# Altium schematic symbol library TE Connectivity.SchLib: 2 symbols
Pins are listed as number, name and electrical type; pins without a type are passive.

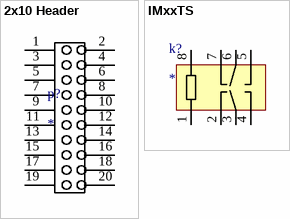
[diagram p0: symbols 2x10 Header to IMxxTS]

## 2x10 Header
designator p?
Header Pin
footprint 2x10-HeaderPin (2x10 Header Pin)
pins: 1 "Header Pin", 2 "Header Pin", 3 "Header Pin", 4 "Header Pin", 5 "Header Pin", 6 "Header Pin", 7 "Header Pin", 8 "Header Pin", 9 "Header Pin", 10 "Header Pin", 11 "Header Pin", 12 "Header Pin", 13 "Header Pin", 14 "Header Pin", 15 "Header Pin", 16 "Header Pin", 17 "Header Pin", 18 "Header Pin", 19 "Header Pin", 20 "Header Pin"

## IMxxTS
designator k?
Standard THT Package
footprint THT-8
pins: 1, 2, 3, 4, 5, 6, 7, 8